# Altium footprint library ZIF_5025985193.PcbLib: 1 footprints
Each footprint in its own frame and in the unit in brackets; x right, y up, seen from the top. Pads: shape width x height; smd on the part's side, far side on the other; paste and mask are expansions set on the pad; w line width, h text height; cw(c..) or ccw(c..) is an arc to the next point about the centre after c.
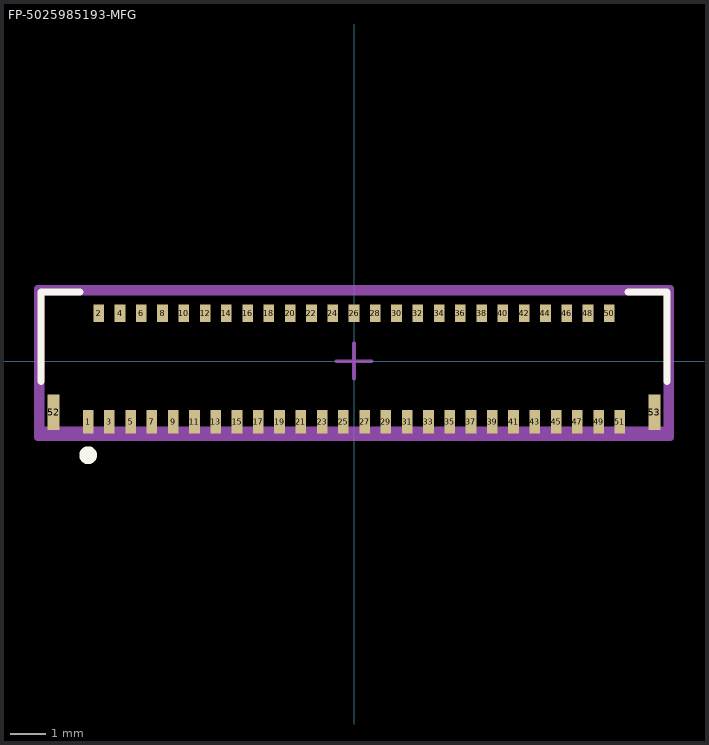
[diagram p0: the footprint, top view; thin cyan lines are the x and y axes]

## FP-5025985193-MFG [mm] "Molex 5025985193, 51 contacts plus two mounting pads"
height 1.83
pads (53):
  rect 0.3x0.67 smd paste+0 mask+0: 1(-7.5,-1.715) 3(-6.9,-1.715) 5(-6.3,-1.715) 7(-5.7,-1.715) 9(-5.1,-1.715) 11(-4.5,-1.715) 13(-3.9,-1.715) 15(-3.3,-1.715) 17(-2.7,-1.715) 19(-2.1,-1.715) 21(-1.5,-1.715) 23(-0.9,-1.715) 25(-0.3,-1.715) 27(0.3,-1.715) 29(0.9,-1.715) 31(1.5,-1.715) 33(2.1,-1.715) 35(2.7,-1.715) 37(3.3,-1.715) 39(3.9,-1.715) 41(4.5,-1.715) 43(5.1,-1.715) 45(5.7,-1.715) 47(6.3,-1.715) 49(6.9,-1.715) 51(7.5,-1.715)
  rect 0.3x0.5 smd paste+0 mask+0: 2(-7.2,1.35) 4(-6.6,1.35) 6(-6,1.35) 8(-5.4,1.35) 10(-4.8,1.35) 12(-4.2,1.35) 14(-3.6,1.35) 16(-3,1.35) 18(-2.4,1.35) 20(-1.8,1.35) 22(-1.2,1.35) 24(-0.6,1.35) 26(0,1.35) 28(0.6,1.35) 30(1.2,1.35) 32(1.8,1.35) 34(2.4,1.35) 36(3,1.35) 38(3.6,1.35) 40(4.2,1.35) 42(4.8,1.35) 44(5.4,1.35) 46(6,1.35) 48(6.6,1.35) 50(7.2,1.35)
  rect 0.35x1 smd paste+0 mask+0: 52(-8.475,-1.45) 53(8.475,-1.45)
Top Overlay:
  circle w0.25: c-7.5,-2.655 r0.125
  lines w0.2: -8.825,-0.575 -8.825,1.95 -7.725,1.95 ; 7.725,1.95 8.825,1.95 8.825,-0.575
Mechanical 5:
  lines w0.2: -8.925,-2.15 -8.925,2.05 8.925,2.05 8.925,-2.15 -8.925,-2.15
  text ".Designator" at -0.002,-0.039 h1
Mechanical 13:
  lines w0.2: -8.825,-1.95 -8.825,1.95 8.825,1.95 8.825,-1.95 -8.825,-1.95
Mechanical 15:
  lines w0.2: -8.925,-2.15 -8.925,2.05 8.925,2.05 8.925,-2.15 -8.925,-2.15
Mechanical 16:
  lines w0.1: -0.5,0 0.5,0 ; 0,-0.5 0,0.5
3D body "5025985193.stp": height 1.26, standoff 0.11, extent -8.7,-2.225 8.7,1.575